# Altium schematic symbol library MC33063A.SchLib: 1 symbol
Pins are listed as number, name and electrical type; pins without a type are passive.

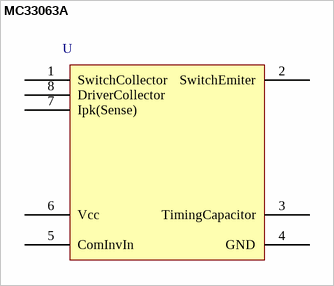
[diagram p0: symbol MC33063A]

## MC33063A
designator U  (value not drawn)
Manufacturer: TI; Value: MC33063A; Farnell Code: xxxxxxx
footprint SO8 (Footprint not found)
pins: 1 SwitchCollector, 2 SwitchEmiter, 3 TimingCapacitor, 4 GND, 5 ComInvIn, 6 Vcc, 7 Ipk(Sense), 8 DriverCollector